# Altium footprint library PcbLib1.PcbLib: 85 footprints (part 5 of 6)
Each footprint in its own frame and in the unit in brackets; x right, y up, seen from the top. Pads: shape width x height; smd on the part's side, far side on the other; paste and mask are expansions set on the pad; w line width, h text height; cw(c..) or ccw(c..) is an arc to the next point about the centre after c.
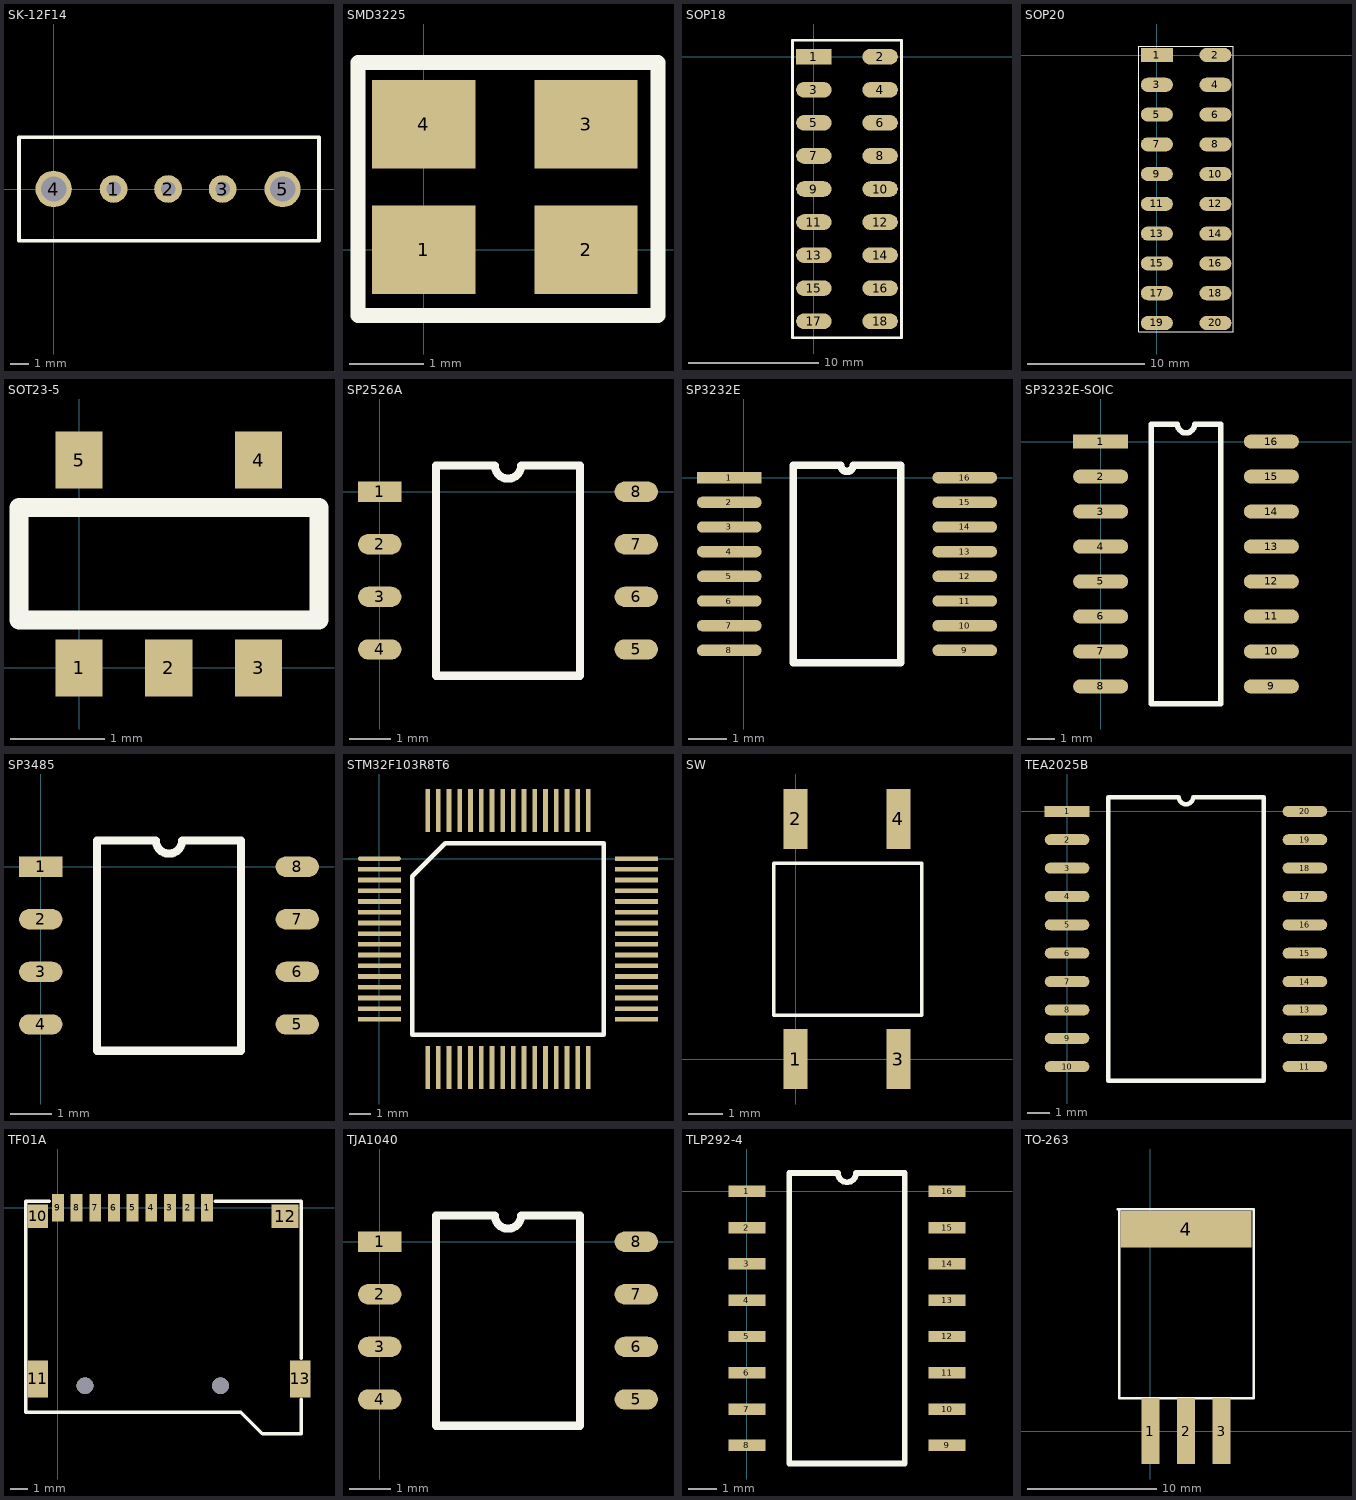
[diagram p4: the footprints below, top view; thin cyan lines are the x and y axes]

## SK-12F14 [mm]
pads (5):
  round 1.524 hole 0.8: 1(3.3,0) 2(6.3,0) 3(9.3,0)
  round 2 hole 1.4: 4(0,0) 5(12.6,0)
Top Overlay:
  lines w0.2: -1.905,-2.85 -1.905,2.85 14.605,2.85 14.605,-2.85 -1.905,-2.85

## SMD3225 [mm]
pads (4):
  rect 1.4x1.2 smd: 1(0,0) 2(2.2,0) 3(2.2,1.7) 4(0,1.7)
Top Overlay:
  lines w0.2: -0.889,-0.889 3.175,-0.889 3.175,2.54 -0.762,2.54 -0.889,2.54 -0.889,-0.889

## SOP18 [mm]
pads (18):
  rect 2.73x1.2 smd: 1(0,0)
  oval 2.73x1.2 smd: 2(5.08,0) 3(0,-2.54) 4(5.08,-2.54) 5(0,-5.08) 6(5.08,-5.08) 7(0,-7.62) 8(5.08,-7.62) 9(0,-10.16) 10(5.08,-10.16) 11(0,-12.7) 12(5.08,-12.7) 13(0,-15.24) 14(5.08,-15.24) 15(0,-17.78) 16(5.08,-17.78) 17(0,-20.32) 18(5.08,-20.32)
Top Overlay:
  lines w0.2: -1.651,-21.59 2.2,-21.59 2.88,-21.59 6.731,-21.59 6.731,0.787 6.731,1.27 3.175,1.27 2.88,1.27 2.2,1.27 1.905,1.27 -1.651,1.27 -1.651,-21.59

## SOP20 [mm]
pads (20):
  rect 2.73x1.2 smd: 1(0,0)
  oval 2.73x1.2 smd: 2(5,0) 3(0,-2.54) 4(5,-2.54) 5(0,-5.08) 6(5,-5.08) 7(0,-7.62) 8(5,-7.62) 9(0,-10.16) 10(5,-10.16) 11(0,-12.7) 12(5,-12.7) 13(0,-15.24) 14(5,-15.24) 15(0,-17.78) 16(5,-17.78) 17(0,-20.32) 18(5,-20.32) 19(0,-22.86) 20(5,-22.86)
Top Overlay:
  lines w0.1: -1.524,-23.622 6.502,-23.622 6.502,-16.002 6.502,0.762 -1.524,0.762 -1.524,-23.622

## SOT23-5 [mm]
pads (5):
  rect 0.5x0.6 smd: 1(0,0) 2(0.95,0) 3(1.9,0) 4(1.9,2.2) 5(0,2.2)
Top Overlay:
  lines w0.2: -0.635,0.508 -0.635,1.7 2.54,1.7 2.54,0.508 -0.635,0.508

## SP2526A [mm]
pads (8):
  rect 1.05x0.49 smd: 1(0,0)
  oval 1.05x0.49 smd: 2(0,-1.27) 3(0,-2.54) 4(0,-3.81) 5(6.2,-3.81) 6(6.2,-2.54) 7(6.2,-1.27) 8(6.2,0)
Top Overlay:
  lines w0.2: 1.36,-4.445 1.36,0.635 2.782,0.635 ccw(c3.1,0.635) 3.417,0.635 4.84,0.635 4.84,-4.445 1.36,-4.445

## SP3232E [mm]
pads (16):
  rect 1.7x0.3 smd: 1(-0.375,0)
  oval 1.7x0.3 smd: 2(-0.375,-0.65) 3(-0.375,-1.3) 4(-0.375,-1.95) 5(-0.375,-2.6) 6(-0.375,-3.25) 7(-0.375,-3.9) 8(-0.375,-4.55) 9(5.825,-4.55) 10(5.825,-3.9) 11(5.825,-3.25) 12(5.825,-2.6) 13(5.825,-1.95) 14(5.825,-1.3) 15(5.825,-0.65) 16(5.825,0)
Top Overlay:
  lines w0.2: 1.31,-4.875 1.31,0.325 2.562,0.325 ccw(c2.725,0.325) 2.887,0.325 4.14,0.325 4.14,-4.875 1.31,-4.875

## SP3232E-SOIC [mm]
pads (16):
  rect 2x0.508 smd: 1(0,0)
  oval 2x0.508 smd: 2(0,-1.27) 3(0,-2.54) 4(0,-3.81) 5(0,-5.08) 6(0,-6.35) 7(0,-7.62) 8(0,-8.89) 9(6.198,-8.89) 10(6.198,-7.62) 11(6.198,-6.35) 12(6.198,-5.08) 13(6.198,-3.81) 14(6.198,-2.54) 15(6.198,-1.27) 16(6.198,0)
Top Overlay:
  lines w0.2: 1.835,-9.525 1.835,0.635 2.781,0.635 ccw(c3.099,0.635) 3.416,0.635 4.363,0.635 4.363,-9.525 1.835,-9.525

## SP3485 [mm]
pads (8):
  rect 1.05x0.49 smd: 1(0,0)
  oval 1.05x0.49 smd: 2(0,-1.27) 3(0,-2.54) 4(0,-3.81) 5(6.2,-3.81) 6(6.2,-2.54) 7(6.2,-1.27) 8(6.2,0)
Top Overlay:
  lines w0.2: 1.36,-4.445 1.36,0.635 2.782,0.635 ccw(c3.1,0.635) 3.417,0.635 4.84,0.635 4.84,-4.445 1.36,-4.445

## STM32F103R8T6 [mm]
pads (64):
  oval 2x0.22 smd: 1(0,0)
  rect 2x0.22 smd: 2(0,-0.5) 3(0,-1) 4(0,-1.5) 5(0,-2) 6(0,-2.5) 7(0,-3) 8(0,-3.5) 9(0,-4) 10(0,-4.5) 11(0,-5) 12(0,-5.5) 13(0,-6) 14(0,-6.5) 15(0,-7) 16(0,-7.5) 33(12,-7.5) 34(12,-7) 35(12,-6.5) 36(12,-6) 37(12,-5.5) 38(12,-5) 39(12,-4.5) 40(12,-4) 41(12,-3.5) 42(12,-3) 43(12,-2.5) 44(12,-2) 45(12,-1.5) 46(12,-1) 47(12,-0.5) 48(12,0)
  rect 0.22x2 smd: 17(2.25,-9.75) 18(2.75,-9.75) 19(3.25,-9.75) 20(3.75,-9.75) 21(4.25,-9.75) 22(4.75,-9.75) 23(5.25,-9.75) 24(5.75,-9.75) 25(6.25,-9.75) 26(6.75,-9.75) 27(7.25,-9.75) 28(7.75,-9.75) 29(8.25,-9.75) 30(8.75,-9.75) 31(9.25,-9.75) 32(9.75,-9.75) 49(9.75,2.25) 50(9.25,2.25) 51(8.75,2.25) 52(8.25,2.25) 53(7.75,2.25) 54(7.25,2.25) 55(6.75,2.25) 56(6.25,2.25) 57(5.75,2.25) 58(5.25,2.25) 59(4.75,2.25) 60(4.25,2.25) 61(3.75,2.25) 62(3.25,2.25) 63(2.75,2.25) 64(2.25,2.25)
Top Overlay:
  lines w0.2: 1.535,-8.215 1.535,-0.82 3.07,0.715 10.465,0.715 10.465,-8.215 1.535,-8.215

## SW [mm]
pads (4):
  rect 0.7x1.75 smd: 1(0,0) 2(0,7) 3(3,0) 4(3,7)
Top Overlay:
  lines w0.1: -0.635,1.27 3.683,1.27 3.683,5.715 -0.635,5.715 -0.635,1.27

## TEA2025B [mm]
pads (20):
  rect 2x0.49 smd: 1(0,0)
  oval 2x0.49 smd: 2(0,-1.27) 3(0,-2.54) 4(0,-3.81) 5(0,-5.08) 6(0,-6.35) 7(0,-7.62) 8(0,-8.89) 9(0,-10.16) 10(0,-11.43) 11(10.65,-11.43) 12(10.65,-10.16) 13(10.65,-8.89) 14(10.65,-7.62) 15(10.65,-6.35) 16(10.65,-5.08) 17(10.65,-3.81) 18(10.65,-2.54) 19(10.65,-1.27) 20(10.65,0)
Top Overlay:
  lines w0.2: 1.835,-12.065 1.835,0.635 5.007,0.635 ccw(c5.325,0.635) 5.642,0.635 8.815,0.635 8.815,-12.065 1.835,-12.065

## TF01A [mm]
pads (13):
  rect 0.7x1.6 smd: 1(8.8,0) 2(7.7,0) 3(6.6,0) 4(5.5,0) 5(4.4,0) 6(3.3,0) 7(2.2,0) 8(1.1,0) 9(0,0)
  rect 1.2x1.4 smd: 10(-1.2,-0.5)
  rect 1.2x2.2 smd: 11(-1.2,-10.1) 13(14.3,-10.1)
  rect 1.6x1.4 smd: 12(13.4,-0.5)
via 1.6,-10.5 diameter 1 hole 1
via 9.6,-10.5 diameter 1 hole 1
Top Overlay:
  lines w0.2: -0.508,0.381 -1.905,0.381 -1.905,-12.065 10.795,-12.065 12.065,-13.335 14.351,-13.335 14.351,-11.303 ; 9.271,0.381 13.843,0.381 14.351,0.381 14.351,-8.89

## TJA1040 [mm]
pads (8):
  rect 1.05x0.49 smd: 1(0,0)
  oval 1.05x0.49 smd: 2(0,-1.27) 3(0,-2.54) 4(0,-3.81) 5(6.2,-3.81) 6(6.2,-2.54) 7(6.2,-1.27) 8(6.2,0)
Top Overlay:
  lines w0.2: 1.36,-4.445 4.84,-4.445 4.84,0.635 3.417,0.635 cw(c3.1,0.635) 2.782,0.635 1.36,0.635 1.36,-4.445

## TLP292-4 [mm]
pads (16):
  rect 1.3x0.4 smd: 1(0,0) 2(0,-1.27) 3(0,-2.54) 4(0,-3.81) 5(0,-5.08) 6(0,-6.35) 7(0,-7.62) 8(0,-8.89) 9(7,-8.89) 10(7,-7.62) 11(7,-6.35) 12(7,-5.08) 13(7,-3.81) 14(7,-2.54) 15(7,-1.27) 16(7,0)
Top Overlay:
  lines w0.2: 1.485,-9.525 1.485,0.635 3.183,0.635 ccw(c3.5,0.635) 3.818,0.635 5.515,0.635 5.515,-9.525 1.485,-9.525

## TO-263 [mm]
pads (4):
  rect 1.37x5.1 smd: 1(0,0) 2(2.75,0) 3(5.5,0)
  rect 10.1x2.8 smd: 4(2.75,15.6)
Top Overlay:
  lines w0.2: -2.54,17.145 8.001,17.145 8.001,2.54 -2.413,2.54 -2.413,17.018